# Altium footprint library inductor_smd.PcbLib: 26 footprints (part 2 of 2)
Each footprint in its own frame and in the unit in brackets; x right, y up, seen from the top. Pads: shape width x height; smd on the part's side, far side on the other; paste and mask are expansions set on the pad; w line width, h text height; cw(c..) or ccw(c..) is an arc to the next point about the centre after c.
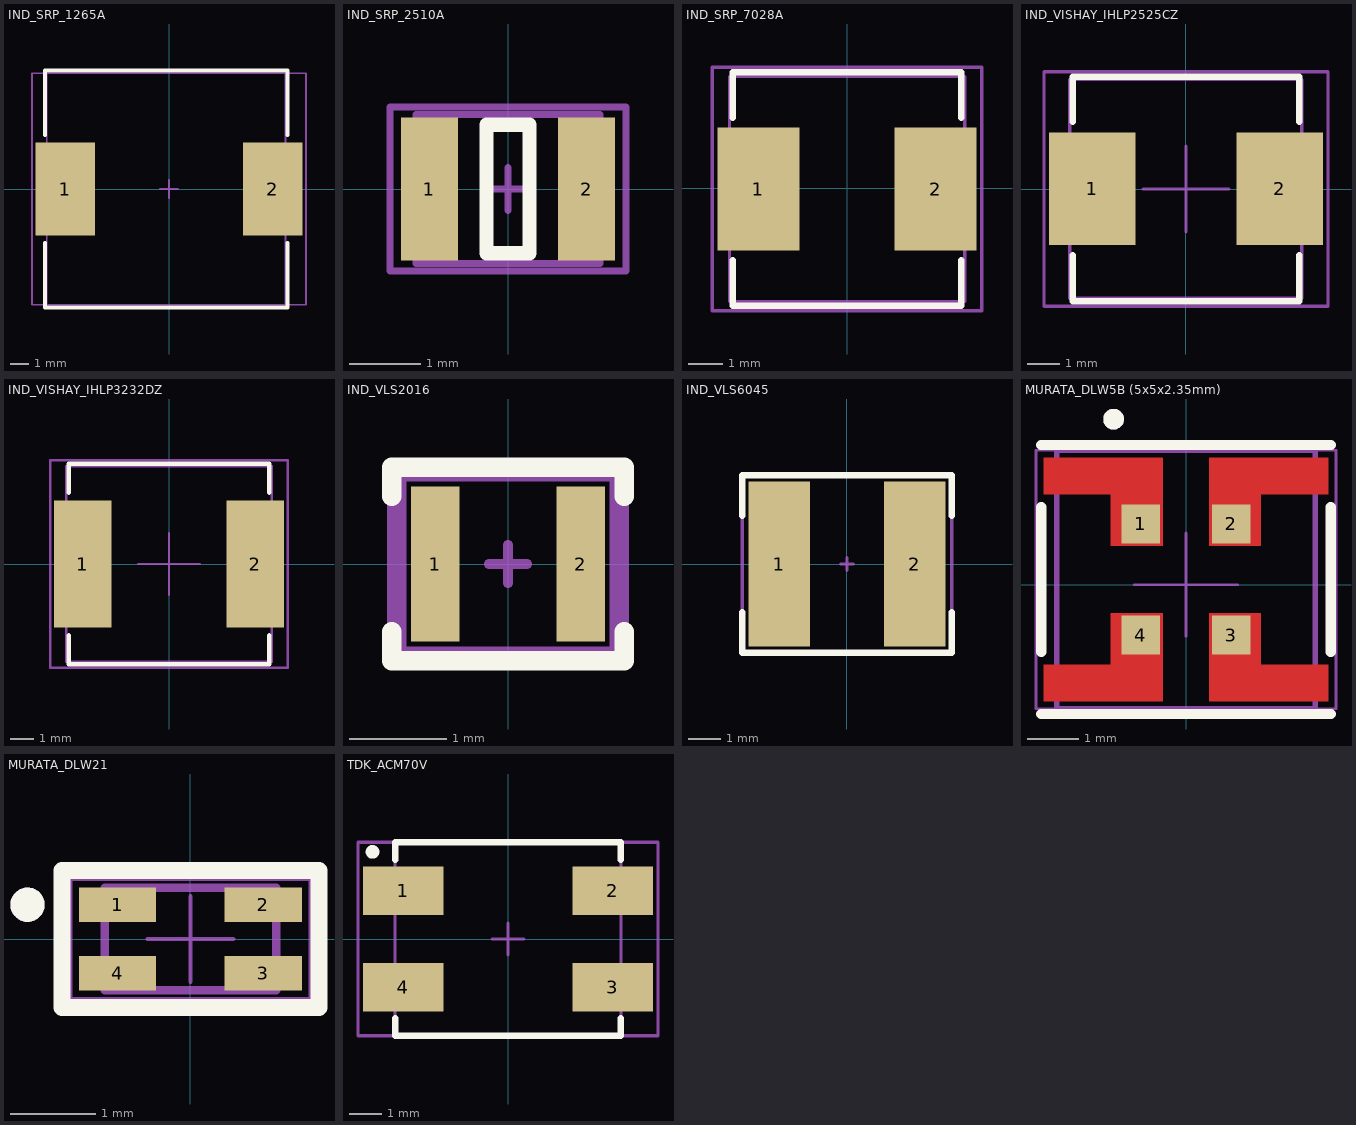
[diagram p1: the footprints below, top view; thin cyan lines are the x and y axes]

## IND_SRP_1265A [mm]
pads (2):
  rect 3.2x5 smd: 1(-5.6,0) 2(5.6,0)
Top Overlay:
  lines w0.2: -6.7,-2.9 -6.7,-6.4 6.4,-6.4 6.4,-2.9 ; -6.7,2.9 -6.7,6.4 6.4,6.4 6.4,2.9
Mechanical 1:
  lines w0.1: -6.6,-6.25 -6.6,6.25 6.3,6.25 6.3,-6.25 -6.6,-6.25
Mechanical 15:
  lines w0.1: -0.5,0 0.5,0 ; 0,-0.5 0,0.5 ; -7.4,-6.25 -7.4,6.25 7.4,6.25 7.4,-6.25 -7.4,-6.25
3D body "SRP1265A series.stp": height 6.31, standoff 0, extent -6.6,-6.25 6.3,6.25

## IND_SRP_2510A [mm]
pads (2):
  rect 0.8x2 smd: 1(-1.1,0) 2(1.1,0)
Top Overlay:
  lines w0.2: -0.3,-0.9 0.3,-0.9 0.3,0.9 -0.3,0.9 -0.3,-0.9
Mechanical 1:
  lines w0.1: -1.285,-1.045 1.285,-1.045 1.285,1.045 -1.285,1.045 -1.285,-1.045
Mechanical 15:
  lines w0.1: -0.3,0 0.3,0 ; 0,-0.3 0,0.3 ; -1.65,-1.15 1.65,-1.15 1.65,1.15 -1.65,1.15 -1.65,-1.15
3D body "666.step": height 0.97, standoff 0.01, extent -1.285,-1.045 1.285,1.045

## IND_SRP_7028A [mm]
pads (2):
  rect 2.4x3.6 smd: 1(-2.6,-0.025) 2(2.6,-0.025)
Top Overlay:
  lines w0.2: -3.35,-2.125 -3.35,-3.45 3.35,-3.45 3.35,-2.125 ; -3.35,2.075 -3.35,3.4 3.35,3.4 3.35,2.075
Mechanical 1:
  lines w0.1: -3.447,-3.326 -3.447,3.274 3.453,3.274 3.453,-3.326 -3.447,-3.326
Mechanical 15:
  lines w0.1: -3.95,-3.6 3.95,-3.6 3.95,3.55 -3.95,3.55 -3.95,-3.6
3D body "SRP 7028A series.STEP": height 2.83, standoff 0, extent -3.447,-3.326 3.453,3.274

## IND_VISHAY_IHLP2525CZ [mil]
pads (2):
  rect 103.75x135 smd: 1(-112.34,0.43) 2(112.41,0.43)
Top Overlay:
  lines w7.87: -135.81,-79.72 -135.81,-134.84 135.81,-134.84 135.81,-79.72 ; -135.82,80.71 -135.82,134.84 135.81,134.84 135.81,80.71
Mechanical 1:
  lines w3.94: -139.29,-130.92 -139.29,131.22 138.98,131.22 138.98,-130.92 -139.29,-130.92
Mechanical 15:
  lines w3.94: -51.18,0 51.18,0 ; 0,-51.18 0,51.18 ; -170.28,-140.75 -170.28,140.75 170.28,140.75 170.28,-140.75 -170.28,-140.75
3D body "IHLP2525CZ.STEP": height 115.55, standoff 2.05, extent -139.31,-131.44 139.29,131.16

## IND_VISHAY_IHLP3232DZ [mil]
pads (2):
  rect 95x210 smd: 1(-142.48,0) 2(142.48,0)
Top Overlay:
  lines w7.87: -165.4,-118.11 -165.4,-165.35 165.31,-165.35 165.31,-118.11 ; -165.35,118.11 -165.35,165.35 165.29,165.35 165.29,118.11
Mechanical 1:
  lines w3.94: -169.29,-161.02 169.29,-161.02 169.29,161.02 -169.29,161.02 -169.29,-161.02
Mechanical 15:
  lines w3.94: -51.18,0 51.18,0 ; 0,-51.18 0,51.18 ; -195.87,-171.26 195.87,-171.26 195.87,171.26 -195.87,171.26 -195.87,-171.26
3D body "IHLP3232DZ.STEP": height 152.5, standoff -1, extent -169.29,-161.29 169.31,161.31

## IND_VLS2016 [mm]
pads (2):
  rect 0.5x1.6 smd: 1(-0.75,0) 2(0.75,0)
Top Overlay:
  lines w0.2: -1.2,-0.7 -1.2,-1 1.2,-1 1.2,-0.7 ; -1.2,0.7 -1.2,1 1.2,1 1.2,0.7
Mechanical 1:
  lines w0.1: -1.1,-0.9 1.1,-0.9 1.1,0.9 -1.1,0.9 -1.1,-0.9
Mechanical 15:
  lines w0.1: -0.2,0 0.2,0 ; 0,-0.2 0,0.2 ; -1.2,-1 1.2,-1 1.2,1 -1.2,1 -1.2,-1
3D body "vls201610hbx-1.step": height 0.99, standoff -0.01, extent -1,-0.8 1,0.8

## IND_VLS6045 [mm]
pads (2):
  rect 1.9x5.1 smd: 1(-2.1,0) 2(2.1,0)
Top Overlay:
  lines w0.2: -3.25,-1.5 -3.25,-2.75 3.25,-2.75 3.25,-1.5 ; -3.25,1.494 -3.25,2.75 3.25,2.75 3.25,1.5
Mechanical 1:
  lines w0.1: -3.25,2.75 -3.25,-2.75 3.25,-2.75 3.25,2.75 -3.241,2.75
Mechanical 15:
  lines w0.1: -0.2,0 0.2,0 ; 0,-0.2 0,0.2 ; -3.25,-2.75 -3.25,2.75 3.25,2.75 3.25,-2.75 -3.25,-2.75
3D body "vls6045ex.step": height 4.49, standoff -0.01, extent -3,-3 3,3

## MURATA_DLW5B (5x5x2.35mm) [mm]
pads (4):
  rect 0.75x0.75 smd: 1(-0.875,1.175) 2(0.875,1.175) 3(0.875,-0.975) 4(-0.875,-0.975)
Top Layer:
  region: 0.45,2.45 2.75,2.45 2.75,1.75 1.45,1.75 1.45,0.75 0.45,0.75
  region: 0.45,-0.55 1.45,-0.55 1.45,-1.55 2.75,-1.55 2.75,-2.25 0.45,-2.25
  region: -1.45,1.75 -2.75,1.75 -2.75,2.45 -0.45,2.45 -0.45,0.75 -1.45,0.75
  region: -2.75,-1.55 -1.45,-1.55 -1.45,-0.55 -0.45,-0.55 -0.45,-2.25 -2.75,-2.25
Top Overlay:
  circle w0.2: c-1.4,3.2 r0.1
  lines w0.2: -2.8,-2.5 2.8,-2.5 ; -2.8,-1.3 -2.8,1.5 ; -2.8,2.7 2.8,2.7 ; 2.8,-1.3 2.8,1.5
Top Paste:
  region: 0.45,2.45 2.75,2.45 2.75,1.75 1.45,1.75 1.45,0.75 0.45,0.75
  region: 0.45,-0.55 1.45,-0.55 1.45,-1.55 2.75,-1.55 2.75,-2.25 0.45,-2.25
  region: -1.45,1.75 -2.75,1.75 -2.75,2.45 -0.45,2.45 -0.45,0.75 -1.45,0.75
  region: -2.75,-1.55 -1.45,-1.55 -1.45,-0.55 -0.45,-0.55 -0.45,-2.25 -2.75,-2.25
Top Solder:
  region: 0.35,2.55 2.85,2.55 2.85,1.65 1.55,1.65 1.55,0.65 0.35,0.65
  region: 0.35,-0.45 1.55,-0.45 1.55,-1.45 2.85,-1.45 2.85,-2.35 0.35,-2.35
  region: -1.55,1.65 -2.85,1.65 -2.85,2.55 -0.35,2.55 -0.35,0.65 -1.55,0.65
  region: -2.85,-1.45 -1.55,-1.45 -1.55,-0.45 -0.35,-0.45 -0.35,-2.35 -2.85,-2.35
Mechanical 1:
  circle w0.2: c-1.4,3.2 r0.1
  lines w0.1: -2.5,-2.4 2.5,-2.4 2.5,2.6 -2.5,2.6 -2.5,-2.4
Mechanical 15:
  lines w0.05: -1,0 1,0 ; 0,-1 0,1 ; -2.9,-2.4 2.9,-2.4 2.9,2.6 -2.9,2.6 -2.9,-2.4
3D body "DLW5BTM501SQ2L--3DModel-STEP-1.STEP": height 2.5, standoff 0, extent -2.5,-2.4 2.5,2.6

## MURATA_DLW21 [mm]
pads (4):
  rect 0.9x0.4 smd: 1(-0.85,0.4) 2(0.85,0.4) 3(0.85,-0.4) 4(-0.85,-0.4)
Top Overlay:
  circle w0.2: c-1.9,0.4 r0.1
  lines w0.2: -1.5,-0.8 1.5,-0.8 1.5,0.8 -1.5,0.8 -1.5,-0.8
Top Paste:
  region: -0.4,-0.6 -1.3,-0.6 -1.3,-0.25 -0.4,-0.25
  region: 1.3,-0.6 0.4,-0.6 0.4,-0.25 1.3,-0.25
  region: 1.3,0.25 0.4,0.25 0.4,0.6 1.3,0.6
  region: -0.4,0.25 -1.3,0.25 -1.3,0.6 -0.4,0.6
Mechanical 1:
  circle w0.2: c-1.9,0.4 r0.1
  lines w0.1: -1,-0.6 -1,0.6 1,0.6 1,-0.6 -1,-0.6
Mechanical 15:
  lines w0.05: -0.5,0 0.5,0 ; 0,-0.5 0,0.5 ; -1.4,-0.7 1.4,-0.7 1.4,0.7 -1.4,0.7 -1.4,-0.7
3D body "step_temp.STEP": height 1.4, standoff 0, extent -1,-0.6 1,0.6

## TDK_ACM70V [mm]
pads (4):
  rect 2.5x1.5 smd: 1(-3.25,1.5) 2(3.25,1.5) 3(3.25,-1.5) 4(-3.25,-1.5)
Top Overlay:
  circle w0.2: c-4.2,2.7 r0.112
  lines w0.2: -3.5,-2.45 -3.5,-3 3.5,-3 3.5,-2.45 ; -3.5,2.45 -3.5,3 3.5,3 3.5,2.45
Mechanical 1:
  lines w0.1: -3.5,-3 -3.5,3 3.5,3 3.5,-3 -3.5,-3
Mechanical 15:
  lines w0.1: -0.5,0 0.5,0 ; 0,-0.5 0,0.5 ; -4.65,-3 4.65,-3 4.65,3 -4.65,3 -4.65,-3
3D body "ACM70V-701-2PL-TL00--3DModel-STEP-272129.STEP": height 3.5, standoff 0, extent -3.5,-3 3.5,3